# Altium schematic symbol library SCH - MCU - SI LABS - SI LABS EFM32GG11B840F1024GQ100 100-PIN QFP 14X14.SchLib: 1 symbol
Pins are listed as number, name and electrical type; pins without a type are passive.

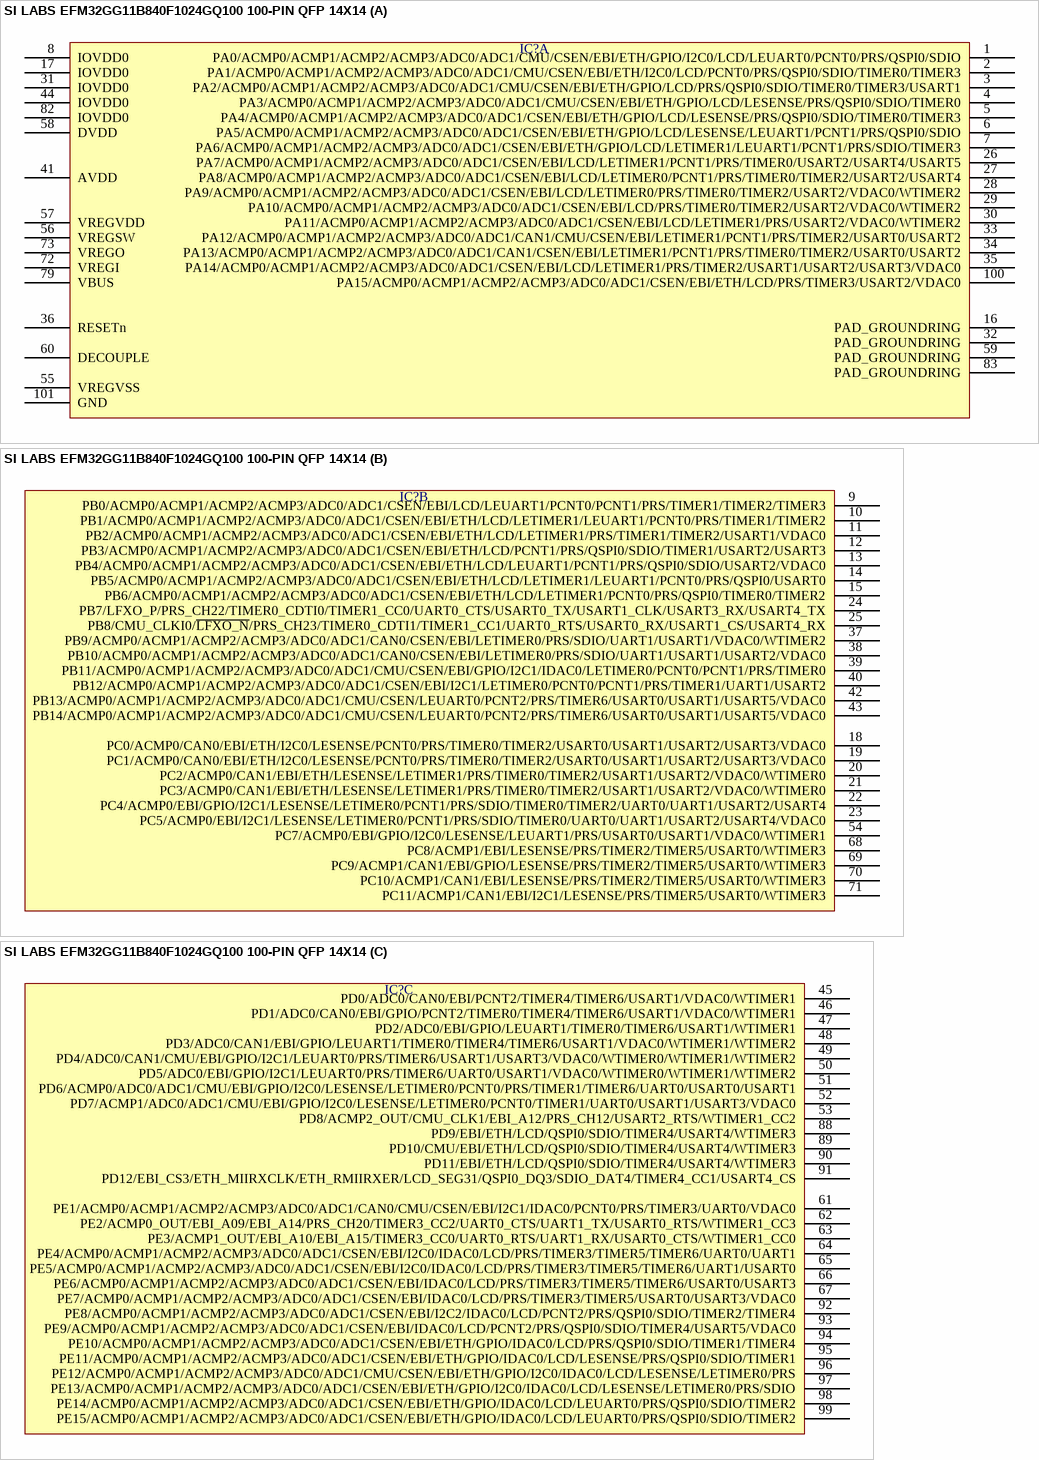
[diagram p0: symbol SI LABS EFM32GG11B840F1024GQ100 100-PIN QFP 14X14]

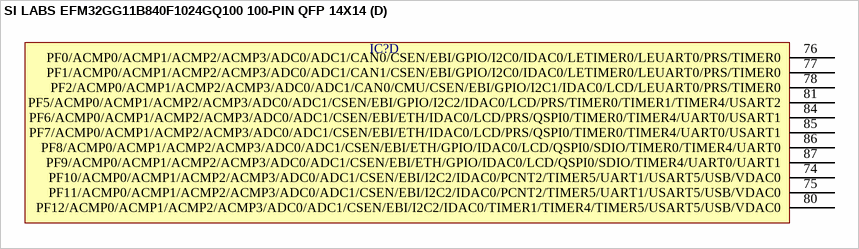
[diagram p1: symbol SI LABS EFM32GG11B840F1024GQ100 100-PIN QFP 14X14]

## SI LABS EFM32GG11B840F1024GQ100 100-PIN QFP 14X14
designator IC?  (value not drawn)
part A pins: 1 PA0/ACMP0/ACMP1/ACMP2/ACMP3/ADC0/ADC1/CMU/CSEN/EBI/ETH/GPIO/I2C0/LCD/LEUART0/PCNT0/PRS/QSPI0/SDIO, 2 PA1/ACMP0/ACMP1/ACMP2/ACMP3/ADC0/ADC1/CMU/CSEN/EBI/ETH/I2C0/LCD/PCNT0/PRS/QSPI0/SDIO/TIMER0/TIMER3, 3 PA2/ACMP0/ACMP1/ACMP2/ACMP3/ADC0/ADC1/CMU/CSEN/EBI/ETH/GPIO/LCD/PRS/QSPI0/SDIO/TIMER0/TIMER3/USART1, 4 PA3/ACMP0/ACMP1/ACMP2/ACMP3/ADC0/ADC1/CMU/CSEN/EBI/ETH/GPIO/LCD/LESENSE/PRS/QSPI0/SDIO/TIMER0, 5 PA4/ACMP0/ACMP1/ACMP2/ACMP3/ADC0/ADC1/CSEN/EBI/ETH/GPIO/LCD/LESENSE/PRS/QSPI0/SDIO/TIMER0/TIMER3, 6 PA5/ACMP0/ACMP1/ACMP2/ACMP3/ADC0/ADC1/CSEN/EBI/ETH/GPIO/LCD/LESENSE/LEUART1/PCNT1/PRS/QSPI0/SDIO, 7 PA6/ACMP0/ACMP1/ACMP2/ACMP3/ADC0/ADC1/CSEN/EBI/ETH/GPIO/LCD/LETIMER1/LEUART1/PCNT1/PRS/SDIO/TIMER3, 8 IOVDD0, 16 PAD_GROUNDRING, 17 IOVDD0, 26 PA7/ACMP0/ACMP1/ACMP2/ACMP3/ADC0/ADC1/CSEN/EBI/LCD/LETIMER1/PCNT1/PRS/TIMER0/USART2/USART4/USART5, 27 PA8/ACMP0/ACMP1/ACMP2/ACMP3/ADC0/ADC1/CSEN/EBI/LCD/LETIMER0/PCNT1/PRS/TIMER0/TIMER2/USART2/USART4, 28 PA9/ACMP0/ACMP1/ACMP2/ACMP3/ADC0/ADC1/CSEN/EBI/LCD/LETIMER0/PRS/TIMER0/TIMER2/USART2/VDAC0/WTIMER2, 29 PA10/ACMP0/ACMP1/ACMP2/ACMP3/ADC0/ADC1/CSEN/EBI/LCD/PRS/TIMER0/TIMER2/USART2/VDAC0/WTIMER2, 30 PA11/ACMP0/ACMP1/ACMP2/ACMP3/ADC0/ADC1/CSEN/EBI/LCD/LETIMER1/PRS/USART2/VDAC0/WTIMER2, 31 IOVDD0, 32 PAD_GROUNDRING, 33 PA12/ACMP0/ACMP1/ACMP2/ACMP3/ADC0/ADC1/CAN1/CMU/CSEN/EBI/LETIMER1/PCNT1/PRS/TIMER2/USART0/USART2, 34 PA13/ACMP0/ACMP1/ACMP2/ACMP3/ADC0/ADC1/CAN1/CSEN/EBI/LETIMER1/PCNT1/PRS/TIMER0/TIMER2/USART0/USART2, 35 PA14/ACMP0/ACMP1/ACMP2/ACMP3/ADC0/ADC1/CSEN/EBI/LCD/LETIMER1/PRS/TIMER2/USART1/USART2/USART3/VDAC0, 36 RESETn, 41 AVDD, 44 IOVDD0, 55 VREGVSS, 56 VREGSW, 57 VREGVDD, 58 DVDD, 59 PAD_GROUNDRING, 60 DECOUPLE, 72 VREGI, 73 VREGO, 79 VBUS, 82 IOVDD0, 83 PAD_GROUNDRING, 100 PA15/ACMP0/ACMP1/ACMP2/ACMP3/ADC0/ADC1/CSEN/EBI/ETH/LCD/PRS/TIMER3/USART2/VDAC0, 101 GND
part B pins: 9 PB0/ACMP0/ACMP1/ACMP2/ACMP3/ADC0/ADC1/CSEN/EBI/LCD/LEUART1/PCNT0/PCNT1/PRS/TIMER1/TIMER2/TIMER3, 10 PB1/ACMP0/ACMP1/ACMP2/ACMP3/ADC0/ADC1/CSEN/EBI/ETH/LCD/LETIMER1/LEUART1/PCNT0/PRS/TIMER1/TIMER2, 11 PB2/ACMP0/ACMP1/ACMP2/ACMP3/ADC0/ADC1/CSEN/EBI/ETH/LCD/LETIMER1/PRS/TIMER1/TIMER2/USART1/VDAC0, 12 PB3/ACMP0/ACMP1/ACMP2/ACMP3/ADC0/ADC1/CSEN/EBI/ETH/LCD/PCNT1/PRS/QSPI0/SDIO/TIMER1/USART2/USART3, 13 PB4/ACMP0/ACMP1/ACMP2/ACMP3/ADC0/ADC1/CSEN/EBI/ETH/LCD/LEUART1/PCNT1/PRS/QSPI0/SDIO/USART2/VDAC0, 14 PB5/ACMP0/ACMP1/ACMP2/ACMP3/ADC0/ADC1/CSEN/EBI/ETH/LCD/LETIMER1/LEUART1/PCNT0/PRS/QSPI0/USART0, 15 PB6/ACMP0/ACMP1/ACMP2/ACMP3/ADC0/ADC1/CSEN/EBI/ETH/LCD/LETIMER1/PCNT0/PRS/QSPI0/TIMER0/TIMER2, 18 PC0/ACMP0/CAN0/EBI/ETH/I2C0/LESENSE/PCNT0/PRS/TIMER0/TIMER2/USART0/USART1/USART2/USART3/VDAC0, 19 PC1/ACMP0/CAN0/EBI/ETH/I2C0/LESENSE/PCNT0/PRS/TIMER0/TIMER2/USART0/USART1/USART2/USART3/VDAC0, 20 PC2/ACMP0/CAN1/EBI/ETH/LESENSE/LETIMER1/PRS/TIMER0/TIMER2/USART1/USART2/VDAC0/WTIMER0, 21 PC3/ACMP0/CAN1/EBI/ETH/LESENSE/LETIMER1/PRS/TIMER0/TIMER2/USART1/USART2/VDAC0/WTIMER0, 22 PC4/ACMP0/EBI/GPIO/I2C1/LESENSE/LETIMER0/PCNT1/PRS/SDIO/TIMER0/TIMER2/UART0/UART1/USART2/USART4, 23 PC5/ACMP0/EBI/I2C1/LESENSE/LETIMER0/PCNT1/PRS/SDIO/TIMER0/UART0/UART1/USART2/USART4/VDAC0, 24 PB7/LFXO_P/PRS_CH22/TIMER0_CDTI0/TIMER1_CC0/UART0_CTS/USART0_TX/USART1_CLK/USART3_RX/USART4_TX, 25 PB8/CMU_CLKI0/~{LFXO_N}/PRS_CH23/TIMER0_CDTI1/TIMER1_CC1/UART0_RTS/USART0_RX/USART1_CS/USART4_RX, 37 PB9/ACMP0/ACMP1/ACMP2/ACMP3/ADC0/ADC1/CAN0/CSEN/EBI/LETIMER0/PRS/SDIO/UART1/USART1/VDAC0/WTIMER2, 38 PB10/ACMP0/ACMP1/ACMP2/ACMP3/ADC0/ADC1/CAN0/CSEN/EBI/LETIMER0/PRS/SDIO/UART1/USART1/USART2/VDAC0, 39 PB11/ACMP0/ACMP1/ACMP2/ACMP3/ADC0/ADC1/CMU/CSEN/EBI/GPIO/I2C1/IDAC0/LETIMER0/PCNT0/PCNT1/PRS/TIMER0, 40 PB12/ACMP0/ACMP1/ACMP2/ACMP3/ADC0/ADC1/CSEN/EBI/I2C1/LETIMER0/PCNT0/PCNT1/PRS/TIMER1/UART1/USART2, 42 PB13/ACMP0/ACMP1/ACMP2/ACMP3/ADC0/ADC1/CMU/CSEN/LEUART0/PCNT2/PRS/TIMER6/USART0/USART1/USART5/VDAC0, 43 PB14/ACMP0/ACMP1/ACMP2/ACMP3/ADC0/ADC1/CMU/CSEN/LEUART0/PCNT2/PRS/TIMER6/USART0/USART1/USART5/VDAC0, 54 PC7/ACMP0/EBI/GPIO/I2C0/LESENSE/LEUART1/PRS/USART0/USART1/VDAC0/WTIMER1, 68 PC8/ACMP1/EBI/LESENSE/PRS/TIMER2/TIMER5/USART0/WTIMER3, 69 PC9/ACMP1/CAN1/EBI/GPIO/LESENSE/PRS/TIMER2/TIMER5/USART0/WTIMER3, 70 PC10/ACMP1/CAN1/EBI/LESENSE/PRS/TIMER2/TIMER5/USART0/WTIMER3, 71 PC11/ACMP1/CAN1/EBI/I2C1/LESENSE/PRS/TIMER5/USART0/WTIMER3
part C pins: 45 PD0/ADC0/CAN0/EBI/PCNT2/TIMER4/TIMER6/USART1/VDAC0/WTIMER1, 46 PD1/ADC0/CAN0/EBI/GPIO/PCNT2/TIMER0/TIMER4/TIMER6/USART1/VDAC0/WTIMER1, 47 PD2/ADC0/EBI/GPIO/LEUART1/TIMER0/TIMER6/USART1/WTIMER1, 48 PD3/ADC0/CAN1/EBI/GPIO/LEUART1/TIMER0/TIMER4/TIMER6/USART1/VDAC0/WTIMER1/WTIMER2, 49 PD4/ADC0/CAN1/CMU/EBI/GPIO/I2C1/LEUART0/PRS/TIMER6/USART1/USART3/VDAC0/WTIMER0/WTIMER1/WTIMER2, 50 PD5/ADC0/EBI/GPIO/I2C1/LEUART0/PRS/TIMER6/UART0/USART1/VDAC0/WTIMER0/WTIMER1/WTIMER2, 51 PD6/ACMP0/ADC0/ADC1/CMU/EBI/GPIO/I2C0/LESENSE/LETIMER0/PCNT0/PRS/TIMER1/TIMER6/UART0/USART0/USART1, 52 PD7/ACMP1/ADC0/ADC1/CMU/EBI/GPIO/I2C0/LESENSE/LETIMER0/PCNT0/TIMER1/UART0/USART1/USART3/VDAC0, 53 PD8/ACMP2_OUT/CMU_CLK1/EBI_A12/PRS_CH12/USART2_RTS/WTIMER1_CC2, 61 PE1/ACMP0/ACMP1/ACMP2/ACMP3/ADC0/ADC1/CAN0/CMU/CSEN/EBI/I2C1/IDAC0/PCNT0/PRS/TIMER3/UART0/VDAC0, 62 PE2/ACMP0_OUT/EBI_A09/EBI_A14/PRS_CH20/TIMER3_CC2/UART0_CTS/UART1_TX/USART0_RTS/WTIMER1_CC3, 63 PE3/ACMP1_OUT/EBI_A10/EBI_A15/TIMER3_CC0/UART0_RTS/UART1_RX/USART0_CTS/WTIMER1_CC0, 64 PE4/ACMP0/ACMP1/ACMP2/ACMP3/ADC0/ADC1/CSEN/EBI/I2C0/IDAC0/LCD/PRS/TIMER3/TIMER5/TIMER6/UART0/UART1, 65 PE5/ACMP0/ACMP1/ACMP2/ACMP3/ADC0/ADC1/CSEN/EBI/I2C0/IDAC0/LCD/PRS/TIMER3/TIMER5/TIMER6/UART1/USART0, 66 PE6/ACMP0/ACMP1/ACMP2/ACMP3/ADC0/ADC1/CSEN/EBI/IDAC0/LCD/PRS/TIMER3/TIMER5/TIMER6/USART0/USART3, 67 PE7/ACMP0/ACMP1/ACMP2/ACMP3/ADC0/ADC1/CSEN/EBI/IDAC0/LCD/PRS/TIMER3/TIMER5/USART0/USART3/VDAC0, 88 PD9/EBI/ETH/LCD/QSPI0/SDIO/TIMER4/USART4/WTIMER3, 89 PD10/CMU/EBI/ETH/LCD/QSPI0/SDIO/TIMER4/USART4/WTIMER3, 90 PD11/EBI/ETH/LCD/QSPI0/SDIO/TIMER4/USART4/WTIMER3, 91 PD12/EBI_CS3/ETH_MIIRXCLK/ETH_RMIIRXER/LCD_SEG31/QSPI0_DQ3/SDIO_DAT4/TIMER4_CC1/USART4_CS, 92 PE8/ACMP0/ACMP1/ACMP2/ACMP3/ADC0/ADC1/CSEN/EBI/I2C2/IDAC0/LCD/PCNT2/PRS/QSPI0/SDIO/TIMER2/TIMER4, 93 PE9/ACMP0/ACMP1/ACMP2/ACMP3/ADC0/ADC1/CSEN/EBI/IDAC0/LCD/PCNT2/PRS/QSPI0/SDIO/TIMER4/USART5/VDAC0, 94 PE10/ACMP0/ACMP1/ACMP2/ACMP3/ADC0/ADC1/CSEN/EBI/ETH/GPIO/IDAC0/LCD/PRS/QSPI0/SDIO/TIMER1/TIMER4, 95 PE11/ACMP0/ACMP1/ACMP2/ACMP3/ADC0/ADC1/CSEN/EBI/ETH/GPIO/IDAC0/LCD/LESENSE/PRS/QSPI0/SDIO/TIMER1, 96 PE12/ACMP0/ACMP1/ACMP2/ACMP3/ADC0/ADC1/CMU/CSEN/EBI/ETH/GPIO/I2C0/IDAC0/LCD/LESENSE/LETIMER0/PRS, 97 PE13/ACMP0/ACMP1/ACMP2/ACMP3/ADC0/ADC1/CSEN/EBI/ETH/GPIO/I2C0/IDAC0/LCD/LESENSE/LETIMER0/PRS/SDIO, 98 PE14/ACMP0/ACMP1/ACMP2/ACMP3/ADC0/ADC1/CSEN/EBI/ETH/GPIO/IDAC0/LCD/LEUART0/PRS/QSPI0/SDIO/TIMER2, 99 PE15/ACMP0/ACMP1/ACMP2/ACMP3/ADC0/ADC1/CSEN/EBI/ETH/GPIO/IDAC0/LCD/LEUART0/PRS/QSPI0/SDIO/TIMER2
part D pins: 74 PF10/ACMP0/ACMP1/ACMP2/ACMP3/ADC0/ADC1/CSEN/EBI/I2C2/IDAC0/PCNT2/TIMER5/UART1/USART5/USB/VDAC0, 75 PF11/ACMP0/ACMP1/ACMP2/ACMP3/ADC0/ADC1/CSEN/EBI/I2C2/IDAC0/PCNT2/TIMER5/UART1/USART5/USB/VDAC0, 76 PF0/ACMP0/ACMP1/ACMP2/ACMP3/ADC0/ADC1/CAN0/CSEN/EBI/GPIO/I2C0/IDAC0/LETIMER0/LEUART0/PRS/TIMER0, 77 PF1/ACMP0/ACMP1/ACMP2/ACMP3/ADC0/ADC1/CAN1/CSEN/EBI/GPIO/I2C0/IDAC0/LETIMER0/LEUART0/PRS/TIMER0, 78 PF2/ACMP0/ACMP1/ACMP2/ACMP3/ADC0/ADC1/CAN0/CMU/CSEN/EBI/GPIO/I2C1/IDAC0/LCD/LEUART0/PRS/TIMER0, 80 PF12/ACMP0/ACMP1/ACMP2/ACMP3/ADC0/ADC1/CSEN/EBI/I2C2/IDAC0/TIMER1/TIMER4/TIMER5/USART5/USB/VDAC0, 81 PF5/ACMP0/ACMP1/ACMP2/ACMP3/ADC0/ADC1/CSEN/EBI/GPIO/I2C2/IDAC0/LCD/PRS/TIMER0/TIMER1/TIMER4/USART2, 84 PF6/ACMP0/ACMP1/ACMP2/ACMP3/ADC0/ADC1/CSEN/EBI/ETH/IDAC0/LCD/PRS/QSPI0/TIMER0/TIMER4/UART0/USART1, 85 PF7/ACMP0/ACMP1/ACMP2/ACMP3/ADC0/ADC1/CSEN/EBI/ETH/IDAC0/LCD/PRS/QSPI0/TIMER0/TIMER4/UART0/USART1, 86 PF8/ACMP0/ACMP1/ACMP2/ACMP3/ADC0/ADC1/CSEN/EBI/ETH/GPIO/IDAC0/LCD/QSPI0/SDIO/TIMER0/TIMER4/UART0, 87 PF9/ACMP0/ACMP1/ACMP2/ACMP3/ADC0/ADC1/CSEN/EBI/ETH/GPIO/IDAC0/LCD/QSPI0/SDIO/TIMER4/UART0/UART1